# Altium footprint library converter 1000v.PcbLib: 25 footprints (part 2 of 2)
Each footprint in its own frame and in the unit in brackets; x right, y up, seen from the top. Pads: shape width x height; smd on the part's side, far side on the other; paste and mask are expansions set on the pad; w line width, h text height; cw(c..) or ccw(c..) is an arc to the next point about the centre after c.
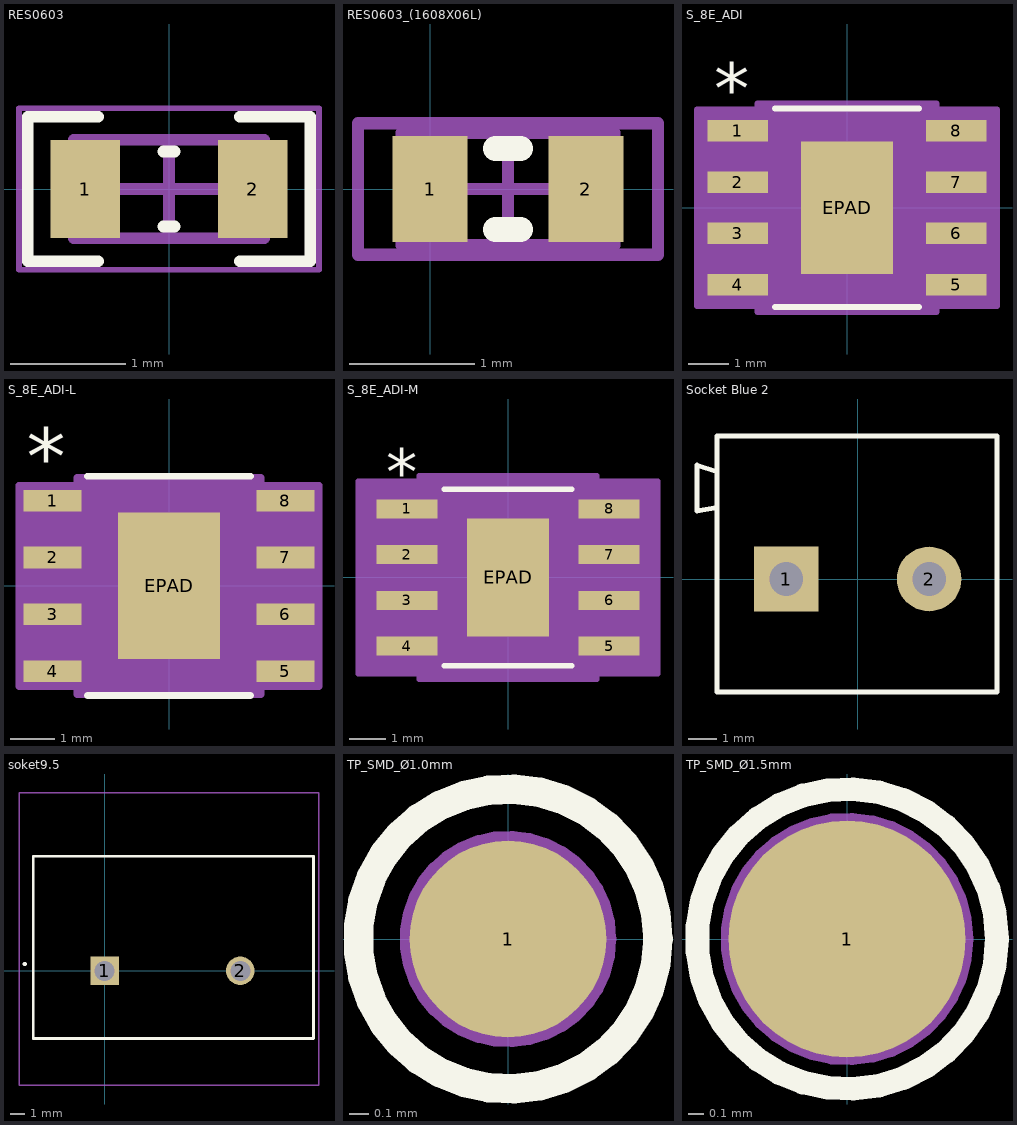
[diagram p1: the footprints below, top view; thin cyan lines are the x and y axes]

## RES0603 [mm] "Chip Resistor, 2-Leads, Body 1/60x0/80mm, IPC Medium Density DESIGNER:ABBAS BASEREH"
height 0.4
pads (2):
  rect 0.6x0.85 smd: 1(-0.725,0) 2(0.725,0)
Top Overlay:
  lines w0.1: -0.613,-0.625 -1.225,-0.625 -1.225,0.625 -0.613,0.625 ; -0.05,-0.325 0.05,-0.325 ; -0.05,0.325 0.05,0.325 ; 0.613,-0.625 1.225,-0.625 1.225,0.625 0.613,0.625
Mechanical 13:
  lines w0.1: -0.825,-0.425 0.825,-0.425 0.825,0.425 -0.825,0.425 -0.825,-0.425
Mechanical 15:
  lines w0.05: -1.3,-0.7 1.3,-0.7 1.3,0.7 -1.3,0.7 -1.3,-0.7
  lines w0.1: -0.425,0 0.425,0 ; 0,-0.425 0,0.425

## RES0603_(1608X06L) [mm] "Chip Resistor, 2-Leads, Body 1.6x0.8mm, IPC High Density _ (0.063W)"
height 0.6
pads (2):
  rect 0.6x0.85 smd: 1(0,0) 2(1.244,0)
Top Overlay:
  lines w0.2: 0.522,-0.325 0.722,-0.325 ; 0.522,0.325 0.722,0.325
Mechanical 13:
  lines w0.1: -0.228,-0.45 1.472,-0.45 1.472,0.45 -0.228,0.45 -0.228,-0.45
Mechanical 15:
  lines w0.1: 0.172,0 1.072,0 ; 0.622,-0.45 0.622,0.45 ; -0.578,-0.525 1.822,-0.525 1.822,0.525 -0.578,0.525 -0.578,-0.525
3D body "0603.STEP": height 0.45, standoff 0, extent -0.14,-0.381 1.384,0.381

## S_8E_ADI [mil]
pads (9):
  rect 59x21 smd paste+0 mask+0: 1(-106.5,75) 2(-106.5,25) 3(-106.5,-25) 4(-106.5,-75) 5(106.5,-75) 6(106.5,-25) 7(106.5,25) 8(106.5,75)
  rect 90x129 smd paste-64 mask+0: EPAD(0,0)
Top Overlay:
  lines w6: -69.89,-96.5 69.89,-96.5 ; -69.89,96.5 69.89,96.5
  text "*" at -129,91 h50
Top Paste:
  region: 41.06,60.56 -41.06,60.56 -41.06,3.94 41.06,3.94
  region: 41.06,-3.94 -41.06,-3.94 -41.06,-60.56 41.06,-60.56
Mechanical 13:
  lines w0: -12,91.5 ccw(c0,91.5) 12,91.5
  lines w1: -122,-84.5 -122,-65.5 -77,-65.5 -77,-84.5 -122,-84.5 ; -122,-34.5 -122,-15.5 -77,-15.5 -77,-34.5 -122,-34.5 ; -122,15.5 -122,34.5 -77,34.5 -77,15.5 -122,15.5 ; -122,65.5 -122,84.5 -77,84.5 -77,65.5 -122,65.5 ; -77,-91.5 77,-91.5 77,91.5 -77,91.5 -77,-91.5 ; 77,-84.5 77,-65.5 122,-65.5 122,-84.5 77,-84.5 ; 77,-34.5 77,-15.5 122,-15.5 122,-34.5 77,-34.5 ; 77,15.5 77,34.5 122,34.5 122,15.5 77,15.5 ; 77,65.5 77,84.5 122,84.5 122,65.5 77,65.5
  text "*" at -74.5,38.5 h50
Mechanical 15:
  region: -87,-95.5 -146,-95.5 -146,95.5 -87,95.5 -87,101.5 87,101.5 87,95.5 146,95.5 146,-95.5 87,-95.5 87,-101.5 -87,-101.5
  lines w6: -146,-95.5 -146,95.5 -87,95.5 -87,101.5 87,101.5 87,95.5 146,95.5 146,-95.5 87,-95.5 87,-101.5 -87,-101.5 -87,-95.5 -146,-95.5
3D body "S_8E_ADI.step": height 69.09, standoff -2.01, extent -122.01,-91.5 122.01,91.5

## S_8E_ADI-L [mil]
pads (9):
  rect 51x19 smd paste+0 mask+0: 1(-102.5,75) 2(-102.5,25) 3(-102.5,-25) 4(-102.5,-75) 5(102.5,-75) 6(102.5,-25) 7(102.5,25) 8(102.5,75)
  rect 90x129 smd paste-64 mask+0: EPAD(0,0)
Top Overlay:
  lines w6: -71.75,-96.5 71.75,-96.5 ; -71.75,96.5 71.75,96.5
  text "*" at -125,89 h50
Top Paste:
  region: 41.06,60.56 -41.06,60.56 -41.06,3.94 41.06,3.94
  region: 41.06,-3.94 -41.06,-3.94 -41.06,-60.56 41.06,-60.56
Mechanical 13:
  lines w0: -12,91.5 ccw(c0,91.5) 12,91.5
  lines w1: -122,-84.5 -122,-65.5 -77,-65.5 -77,-84.5 -122,-84.5 ; -122,-34.5 -122,-15.5 -77,-15.5 -77,-34.5 -122,-34.5 ; -122,15.5 -122,34.5 -77,34.5 -77,15.5 -122,15.5 ; -122,65.5 -122,84.5 -77,84.5 -77,65.5 -122,65.5 ; -77,-91.5 77,-91.5 77,91.5 -77,91.5 -77,-91.5 ; 77,-84.5 77,-65.5 122,-65.5 122,-84.5 77,-84.5 ; 77,-34.5 77,-15.5 122,-15.5 122,-34.5 77,-34.5 ; 77,15.5 77,34.5 122,34.5 122,15.5 77,15.5 ; 77,65.5 77,84.5 122,84.5 122,65.5 77,65.5
  text "*" at -74.5,38.5 h50
Mechanical 15:
  region: -81,-88.5 -132,-88.5 -132,88.5 -81,88.5 -81,95.5 81,95.5 81,88.5 132,88.5 132,-88.5 81,-88.5 81,-95.5 -81,-95.5
  lines w6: -132,-88.5 -132,88.5 -81,88.5 -81,95.5 81,95.5 81,88.5 132,88.5 132,-88.5 81,-88.5 81,-95.5 -81,-95.5 -81,-88.5 -132,-88.5
3D body "S_8E_ADI.step": height 69.09, standoff -2.01, extent -122.01,-91.5 122.01,91.5

## S_8E_ADI-M [mil]
pads (9):
  rect 67x21 smd paste+0 mask+0: 1(-110.5,75) 2(-110.5,25) 3(-110.5,-25) 4(-110.5,-75) 5(110.5,-75) 6(110.5,-25) 7(110.5,25) 8(110.5,75)
  rect 90x129 smd paste-64 mask+0: EPAD(0,0)
Top Overlay:
  lines w6: -69.89,-96.5 69.89,-96.5 ; -69.89,96.5 69.89,96.5
  text "*" at -133,91 h50
Top Paste:
  region: 41.06,60.56 -41.06,60.56 -41.06,3.94 41.06,3.94
  region: 41.06,-3.94 -41.06,-3.94 -41.06,-60.56 41.06,-60.56
Mechanical 13:
  lines w0: -12,91.5 ccw(c0,91.5) 12,91.5
  lines w1: -122,-84.5 -122,-65.5 -77,-65.5 -77,-84.5 -122,-84.5 ; -122,-34.5 -122,-15.5 -77,-15.5 -77,-34.5 -122,-34.5 ; -122,15.5 -122,34.5 -77,34.5 -77,15.5 -122,15.5 ; -122,65.5 -122,84.5 -77,84.5 -77,65.5 -122,65.5 ; -77,-91.5 77,-91.5 77,91.5 -77,91.5 -77,-91.5 ; 77,-84.5 77,-65.5 122,-65.5 122,-84.5 77,-84.5 ; 77,-34.5 77,-15.5 122,-15.5 122,-34.5 77,-34.5 ; 77,15.5 77,34.5 122,34.5 122,15.5 77,15.5 ; 77,65.5 77,84.5 122,84.5 122,65.5 77,65.5
  text "*" at -74.5,38.5 h50
Mechanical 15:
  region: -97,-105.5 -164,-105.5 -164,105.5 -97,105.5 -97,111.5 97,111.5 97,105.5 164,105.5 164,-105.5 97,-105.5 97,-111.5 -97,-111.5
  lines w6: -164,-105.5 -164,105.5 -97,105.5 -97,111.5 97,111.5 97,105.5 164,105.5 164,-105.5 97,-105.5 97,-111.5 -97,-111.5 -97,-105.5 -164,-105.5
3D body "S_8E_ADI.step": height 69.09, standoff -2.01, extent -122.01,-91.5 122.01,91.5

## Socket Blue 2 [mm] "(Make www.tarahiboard.com)"
pads (2):
  rect 2.3x2.3 hole 1.2: 1(-2.54,0)
  round 2.3 hole 1.2: 2(2.54,0)
Top Overlay:
  lines w0.178: -5.004,2.54 -5.715,2.421 -5.715,4.047 -5.004,3.81 ; -5.004,-4.013 -5.004,5.08 4.953,5.08 4.953,-4.013 -5.004,-4.013
3D body "Socket Blue_2Pin.STEP": height 12.52, standoff -6.68, extent -5.789,-4.013 4.953,5.055

## soket9.5 [mm]
pads (2):
  rect 2x2 hole 1.4: 1(0,0)
  round 2 hole 1.4: 2(9.52,0)
Top Overlay:
  lines w0.2: -5.64,0.48 ccw(c-5.59,0.48) -5.54,0.48 ; -5.64,0.48 cw(c-5.59,0.48) -5.54,0.48 ; -5.64,0.48 ccw(c-5.59,0.48) -5.54,0.48 ; -5,-4.752 -5,8.038 14.644,8.038 14.644,-4.752 -5,-4.752
Mechanical 15:
  lines w0.1: -5,-4.762 -5,8.077 14.644,8.077 14.644,-4.762 -5,-4.762
Mechanical 20:
  lines w0.1: -6,-8.02 -6,12.48 15.04,12.48 15.04,-8.02 -6,-8.02
3D body "1720017.stp": height 24.9, standoff -1.6, extent -5.321,-7.409 14.289,11.09

## TP_SMD_Ø1.0mm [mm]
pads (1):
  round 1 smd paste-5: 1(0,0)
Top Overlay:
  circle w0.15: c0,0 r0.762
Mechanical 7:
  circle w0.1: c0,0 r0.762
  circle w0.1: c0,0 r0.5
  text ".Designator" at -0.633,0.918 h0.38

## TP_SMD_Ø1.5mm [mm]
pads (1):
  round 1.5 smd paste-5: 1(0,0)
Top Overlay:
  circle w0.15: c0,0 r0.95
Mechanical 7:
  circle w0.1: c0,0 r0.75
  circle w0.1: c0,0 r0.95
  text ".Designator" at -0.9,1.175 h0.38